# EAGLE library part ISP1160 (library F030NG)
Embedded USB Host Controller
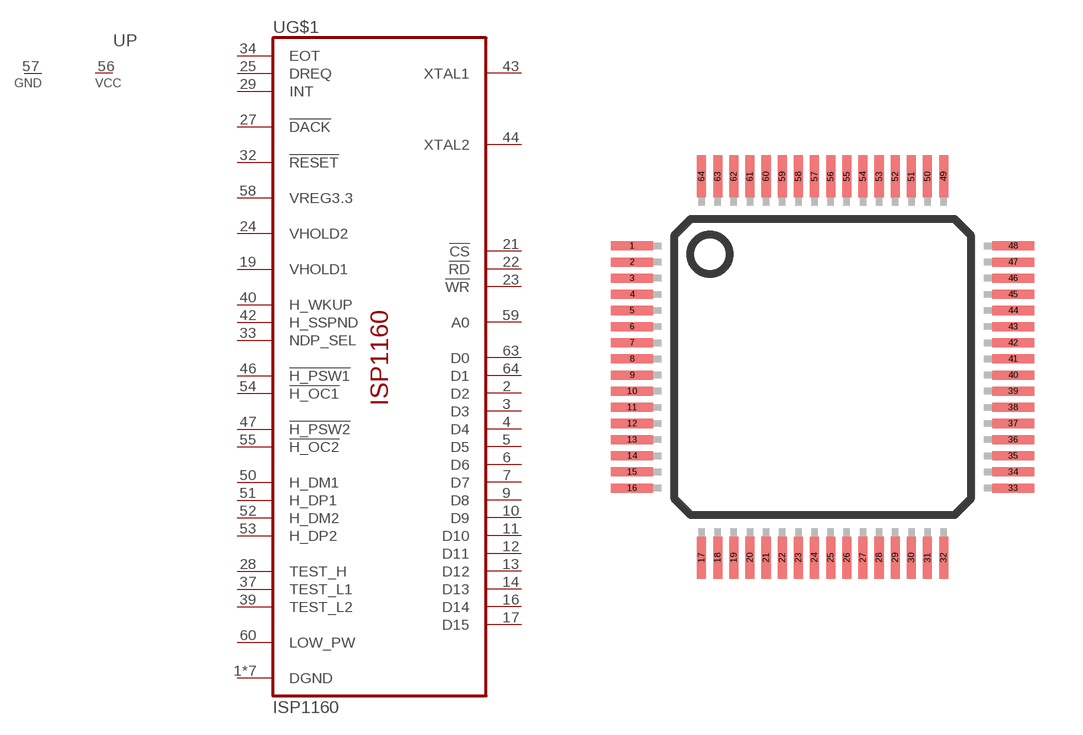
[diagram p53: symbol with the pads of LQFP64; footprint LQFP64]

Designator prefix U; gates G$1=ISP1160 P=1VCC_1GND

## ISP1160  [LQFP64]
1  G$1:DGND  pwr
2  G$1:D2
3  G$1:D3
4  G$1:D4
5  G$1:D5
6  G$1:D6
7  G$1:D7
8  G$1:DGND  pwr
9  G$1:D8
10  G$1:D9
11  G$1:D10
12  G$1:D11
13  G$1:D12
14  G$1:D13
15  G$1:DGND  pwr
16  G$1:D14
17  G$1:D15
18  G$1:DGND  pwr
19  G$1:VHOLD1  pwr
21  G$1:!CS  in
22  G$1:!RD  in
23  G$1:!WR  in
24  G$1:VHOLD2  pwr
25  G$1:DREQ  out
27  G$1:!DACK  in
28  G$1:TEST_H  pas
29  G$1:INT  out
32  G$1:!RESET  in
33  G$1:NDP_SEL  in
34  G$1:EOT  in
35  G$1:DGND  pwr
37  G$1:TEST_L1  pas
39  G$1:TEST_L2  pas
40  G$1:H_WKUP  in
42  G$1:H_SSPND  out
43  G$1:XTAL1  in
44  G$1:XTAL2  out
45  G$1:DGND  pwr
46  G$1:!H_PSW1  out
47  G$1:!H_PSW2  out
50  G$1:H_DM1
51  G$1:H_DP1
52  G$1:H_DM2
53  G$1:H_DP2
54  G$1:!H_OC1  in
55  G$1:!H_OC2  in
56  P:VCC  pwr
57  P:GND  pwr
58  G$1:VREG3.3  pwr
59  G$1:A0
60  G$1:LOW_PW  pas
62  G$1:DGND  pwr
63  G$1:D0
64  G$1:D1

## Footprint LQFP64 (pad centres in mm)
LQFP64 - Low Profile Quad Flat Package SOT314-2
smd 1.3 x 0.28: 1 -5.9,3.75; 2 -5.9,3.25; 3 -5.9,2.75; 4 -5.9,2.25; 5 -5.9,1.75; 6 -5.9,1.25; 7 -5.9,0.75; 8 -5.9,0.25; 9 -5.9,-0.25; 10 -5.9,-0.75; 11 -5.9,-1.25; 12 -5.9,-1.75; 13 -5.9,-2.25; 14 -5.9,-2.75; 15 -5.9,-3.25; 16 -5.9,-3.75; 33 5.9,-3.75; 34 5.9,-3.25; 35 5.9,-2.75; 36 5.9,-2.25; 37 5.9,-1.75; 38 5.9,-1.25; 39 5.9,-0.75; 40 5.9,-0.25; 41 5.9,0.25; 42 5.9,0.75; 43 5.9,1.25; 44 5.9,1.75; 45 5.9,2.25; 46 5.9,2.75; 47 5.9,3.25; 48 5.9,3.75
smd 0.28 x 1.3: 17 -3.75,-5.9; 18 -3.25,-5.9; 19 -2.75,-5.9; 20 -2.25,-5.9; 21 -1.75,-5.9; 22 -1.25,-5.9; 23 -0.75,-5.9; 24 -0.25,-5.9; 25 0.25,-5.9; 26 0.75,-5.9; 27 1.25,-5.9; 28 1.75,-5.9; 29 2.25,-5.9; 30 2.75,-5.9; 31 3.25,-5.9; 32 3.75,-5.9; 49 3.75,5.9; 50 3.25,5.9; 51 2.75,5.9; 52 2.25,5.9; 53 1.75,5.9; 54 1.25,5.9; 55 0.75,5.9; 56 0.25,5.9; 57 -0.25,5.9; 58 -0.75,5.9; 59 -1.25,5.9; 60 -1.75,5.9; 61 -2.25,5.9; 62 -2.75,5.9; 63 -3.25,5.9; 64 -3.75,5.9